# Altium footprint library mylib.PcbLib: 122 footprints (part 6 of 8)
Each footprint in its own frame and in the unit in brackets; x right, y up, seen from the top. Pads: shape width x height; smd on the part's side, far side on the other; paste and mask are expansions set on the pad; w line width, h text height; cw(c..) or ccw(c..) is an arc to the next point about the centre after c.
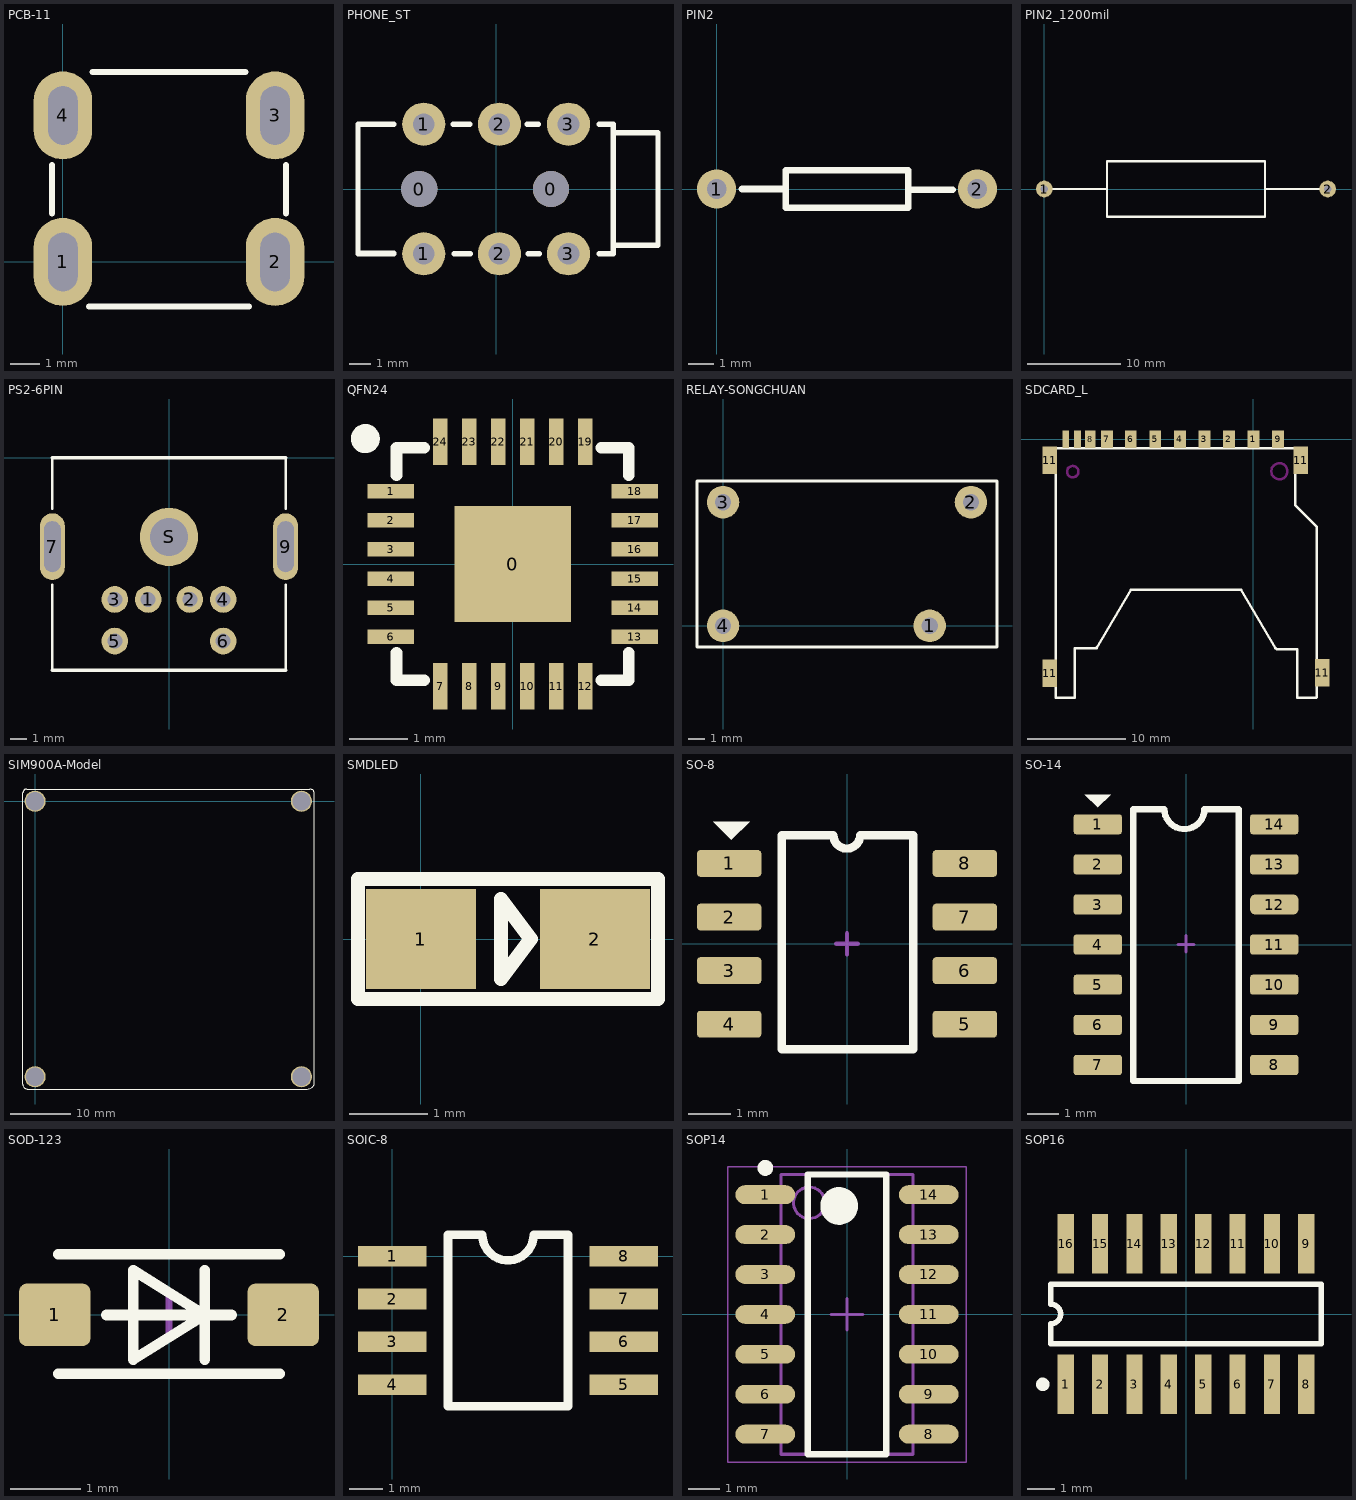
[diagram p5: the footprints below, top view; thin cyan lines are the x and y axes]

## PCB-11 [mm]
pads (4):
  oval 2x3 hole 1 slot 2 at 90 deg: 1(0,0) 2(7.239,0) 3(7.239,5) 4(0,5)
Top Overlay:
  lines w0.203: -0.381,1.651 -0.381,3.302 ; 0.889,-1.524 6.35,-1.524 ; 1.016,6.477 6.223,6.477 ; 7.62,1.651 7.62,3.302

## PHONE_ST [mm]
pads (8):
  round 1.676 hole 1.676: 0(-3.556,0) 0(2.54,0)
  round 2 hole 1: 1(-3.35,-3) 1(-3.35,3) 2(0.15,-3) 2(0.15,3) 3(3.35,-3) 3(3.35,3)
Top Overlay:
  lines w0.254: -6.393,-2.969 -4.742,-2.969 ; -4.742,-3.007 -6.393,-3.007 -6.393,3 -4.742,3 ; -1.986,3 -1.224,3 ; -1.948,-3.007 -1.186,-3.007 ; 1.443,3 1.951,3 ; 1.481,-3.007 1.989,-3.007 ; 4.783,-3.007 5.33,-3.007 ; 4.783,3 5.418,3 5.418,-3.007 ; 5.418,-2.6 7.493,-2.6 7.493,2.6 5.418,2.6

## PIN2 [mil]
pads (2):
  round 60 hole 30: 1(0,0) 2(400,0)
Top Overlay:
  lines w10: 39,0 106,0 ; 295,-1 362,-1 ; 106,-29 106,29 294,29 294,-29 106,-29

## PIN2_1200mil [mm]
pads (2):
  round 1.8 hole 0.8: 1(0,0) 2(30.48,0)
Top Overlay:
  lines w0.254: 0,0 6.74,0 ; 23.74,0 30.48,0 ; 6.74,-3 23.74,-3 23.74,3 6.74,3 6.74,-3

## PS2-6PIN [mm]
pads (9):
  round 1.6 hole 0.9: 1(-1.25,-8.5) 2(1.25,-8.5) 3(-3.25,-8.5) 4(3.25,-8.5) 5(-3.25,-11) 6(3.25,-11)
  oval 1.5x4 hole 1 slot 3.048 at 90 deg: 7(-7,-5.334) 9(7,-5.334)
  round 3.5 hole 2.3: S(0,-4.75)
Top Overlay:
  lines w0.152: -7,-12.75 -7,-7.62 ; -7,-3.048 -7,0 ; 7,-12.75 7,-7.62 ; 7,-3.048 7,0
  lines w0.2: -7,-12.75 7,-12.75 ; -7,0 7,0

## QFN24 [mm]
pads (25):
  rect 2x2 smd: 0(0,0)
  rect 0.8x0.25 smd: 1(-2.101,1.25) 2(-2.101,0.75) 3(-2.101,0.25) 4(-2.101,-0.25) 5(-2.101,-0.75) 6(-2.101,-1.25) 13(2.101,-1.25) 14(2.101,-0.75) 15(2.101,-0.25) 16(2.101,0.25) 17(2.101,0.75) 18(2.101,1.25)
  rect 0.25x0.8 smd: 7(-1.25,-2.101) 8(-0.75,-2.101) 9(-0.25,-2.101) 10(0.25,-2.101) 11(0.75,-2.101) 12(1.25,-2.101) 19(1.25,2.101) 20(0.75,2.101) 21(0.25,2.101) 22(-0.25,2.101) 23(-0.75,2.101) 24(-1.25,2.101)
Top Overlay:
  circle w0.25: c-2.538,2.159 r0.125
  lines w0.2: -2,-1.525 -2,-2 -1.525,-2 ; -2,1.525 -2,2 -1.525,2 ; 1.525,-2 2,-2 2,-1.525 ; 1.525,2 2,2 2,1.525

## RELAY-SONGCHUAN [mm]
pads (4):
  round 2 hole 1: 1(12.7,0) 2(15.24,7.6) 3(0,7.6) 4(0,0)
Top Overlay:
  lines w0.2: -1.6,-1.3 -1.6,0 -1.6,8.9 0,8.9 16.83,8.9 ; -1.595,-1.3 0,-1.3 16.836,-1.3 ; 16.84,-1.296 16.84,0 16.84,8.9

## SDCARD_L [mm]
pads (15):
  rect 1.2x1.8 smd: 1(0,0) 2(-2.489,0) 3(-4.983,-0.009) 4(-7.483,-0.009) 5(-9.983,-0.009) 6(-12.483,-0.009) 7(-14.908,-0.009) 9(2.517,-0.009)
  rect 1.1x1.8 smd: 8(-16.612,0)
  rect 0.7x1.8 smd: 10(-17.908,-0.009) 12(-19.101,0)
  rect 1.5x2.8 smd: 11(-20.726,-23.834) 11(-20.726,-2.143) 11(4.826,-2.143) 11(7.01,-23.784)
Top Overlay:
  lines w0.254: -18.158,-21.3 -18.158,-26.3 -20.131,-26.3 -20.131,-0.914 -20.117,-0.9 4.242,-0.9 4.242,-6.71 6.431,-8.899 6.442,-8.899 6.442,-26.273 6.415,-26.3 4.442,-26.3 4.442,-21.402 2.4,-21.402 2.242,-21.244 ; -18.107,-21.294 -16.065,-21.294 -15.907,-21.136 ; -15.958,-21.294 -12.446,-15.3 ; -12.458,-15.3 -1.258,-15.3 2.242,-21.294
Keep-Out Layer:
  circle w0.254: c2.642,-3.26 r0.82
  circle w0.254: c-18.39,-3.3 r0.58

## SIM900A-Model [mm]
pads (4):
  round 3.5 hole 3: ""(0,-45.72) ""(0,0) ""(44.196,-45.72) ""(44.196,0)
Top Overlay:
  lines w0.203: -2.007,1.448 -2.007,1.397 cw(c-1.372,1.397) -1.372,2.032 ; 43.307,-47.752 45.181,-47.752 ccw(c45.181,-46.451) 46.101,-47.371 ccw(c45.488,-46.758) 46.355,-46.758 46.355,1.27 ccw(c45.593,1.27) 45.593,2.032 44.704,2.032 -1.372,2.032 ; 43.561,-47.752 0.381,-47.752 -1.27,-47.752 cw(c-1.27,-46.99) -2.032,-46.99 -2.032,1.372 cw(c-1.372,1.372) -1.372,2.032

## SMDLED [mm]
pads (2):
  rect 1.4x1.27 smd: 1(0.001,-0.002) 2(2.211,-0.002)
Top Overlay:
  lines w0.178: -0.799,-0.762 3.012,-0.762 3.012,0.762 -0.799,0.762 -0.799,-0.002 -0.799,-0.762 ; 1.016,-0.508 1.016,0.508 1.397,0 1.016,-0.508

## SO-8 [mil]
pads (8):
  rrect25% 60x25 smd: 1(-110,75) 2(-110,25) 3(-110,-25) 4(-110,-75) 5(110,-75) 6(110,-25) 7(110,25) 8(110,75)
Top Overlay:
  region: -108,97 -125,114 -91,114
  lines w7.87: -61,-98.57 -61,101.43 -12.71,101.43 ccw(c-0.21,101.43) 12.29,101.43 62,101.43 62,-98.57 -61,-98.57
Mechanical 1:
  lines w4: -10,0 10,0 ; 0,-10 0,10
3D body: height 68.9, standoff 0.01, extent -118.34,-98 118.34,98.85

## SO-14 [mil]
pads (14):
  rrect25% 60x25 smd: 1(-110,150) 2(-110,100) 3(-110,50) 4(-110,0) 5(-110,-50) 6(-110,-100) 7(-110,-150) 8(110,-150) 9(110,-100) 10(110,-50) 11(110,0) 13(110,100) 14(110,150)
  rrect50% 60x25 smd: 12(110,50)
Top Overlay:
  region: -110,171 -126,187 -94,187
  lines w8: -66,-170 66,-170 66,169 23,169 cw(c-2,169) -27,169 -66,169 -66,-170
Mechanical 1:
  lines w4: -10,0 10,0 ; 0,-9 0,11
3D body: height 69, standoff 0, extent -120,-170 120,170

## SOD-123 [mil]
pads (2):
  rrect25% 40x35 smd: 1(-64,0) 2(64,0)
Top Overlay:
  lines w6: -62,-33 62,-33 ; -62,34 62,34 ; -35,0 35,0 ; 20,-25 20,25 ; -20,-25 -20,25 20,0 -20,-25
Mechanical 1:
  lines w4: -10,0 10,0 ; 0,-10 0,10
3D body: height 56.42, standoff -0.67, extent -75.79,-32.93 75.79,34

## SOIC-8 [mil]
pads (8):
  rect 80x24 smd: 1(0,0) 2(0,-50.06) 3(0,-100.06) 4(0,-150.06) 5(270,-150) 6(270,-100) 7(270,-50) 8(270,0)
Top Overlay:
  lines w10: 75,24.94 75.06,25 105,25 ccw(c135,25) 165,25 204.94,25 205,24.94 205,-175.06 65,-175.06 65,24.94 95,24.94

## SOP14 [mm] "SOIC, 14-Leads, Body 8.55x3.95mm, Pitch 1.27mm, IPC Medium Density"
height 1.7
pads (14):
  oval 1.9x0.6 smd: 1(-2.6,3.81) 2(-2.6,2.54) 3(-2.6,1.27) 4(-2.6,0) 5(-2.6,-1.27) 6(-2.6,-2.54) 7(-2.6,-3.81) 8(2.6,-3.81) 9(2.6,-2.54) 10(2.6,-1.27) 11(2.6,0) 12(2.6,1.27) 13(2.6,2.54) 14(2.6,3.81)
Top Overlay:
  circle w0.25: c-2.6,4.66 r0.125
  circle w0.6: c-0.25,3.45 r0.3
  lines w0.2: -1.25,-4.45 -1.25,4.45 1.25,4.45 1.25,-4.45 -1.25,-4.45
Mechanical 13:
  circle w0.1: c-1.2,3.55 r0.5
  lines w0.1: -2.1,-4.45 -2.1,4.45 2.1,4.45 2.1,-4.45 -2.1,-4.45
Mechanical 15:
  lines w0.05: -3.8,-4.7 -3.8,4.7 3.8,4.7 3.8,-4.7 -3.8,-4.7
  lines w0.1: -0.5,0 0.5,0 ; 0,-0.5 0,0.5
3D body: height 1.7, standoff 0.16, extent -2.1,-4.45 2.1,4.45

## SOP16 [mm]
pads (16):
  rect 0.6x2.2 smd: 1(-4.445,-2.6) 2(-3.175,-2.6) 3(-1.905,-2.6) 4(-0.635,-2.6) 5(0.635,-2.6) 6(1.905,-2.6) 7(3.175,-2.6) 8(4.445,-2.6) 9(4.445,2.6) 10(3.175,2.6) 11(1.905,2.6) 12(0.635,2.6) 13(-0.635,2.6) 14(-1.905,2.6) 15(-3.175,2.6) 16(-4.445,2.6)
Top Overlay:
  circle w0.25: c-5.295,-2.6 r0.125
  lines w0.2: -5,-1.1 -5,-0.367 ccw(c-5,0) -5,0.367 -5,1.1 5,1.1 5,-1.1 -5,-1.1